# Altium integrated library TI Converter Analog to Digital.IntLib: 146 symbols (part 3 of 4)
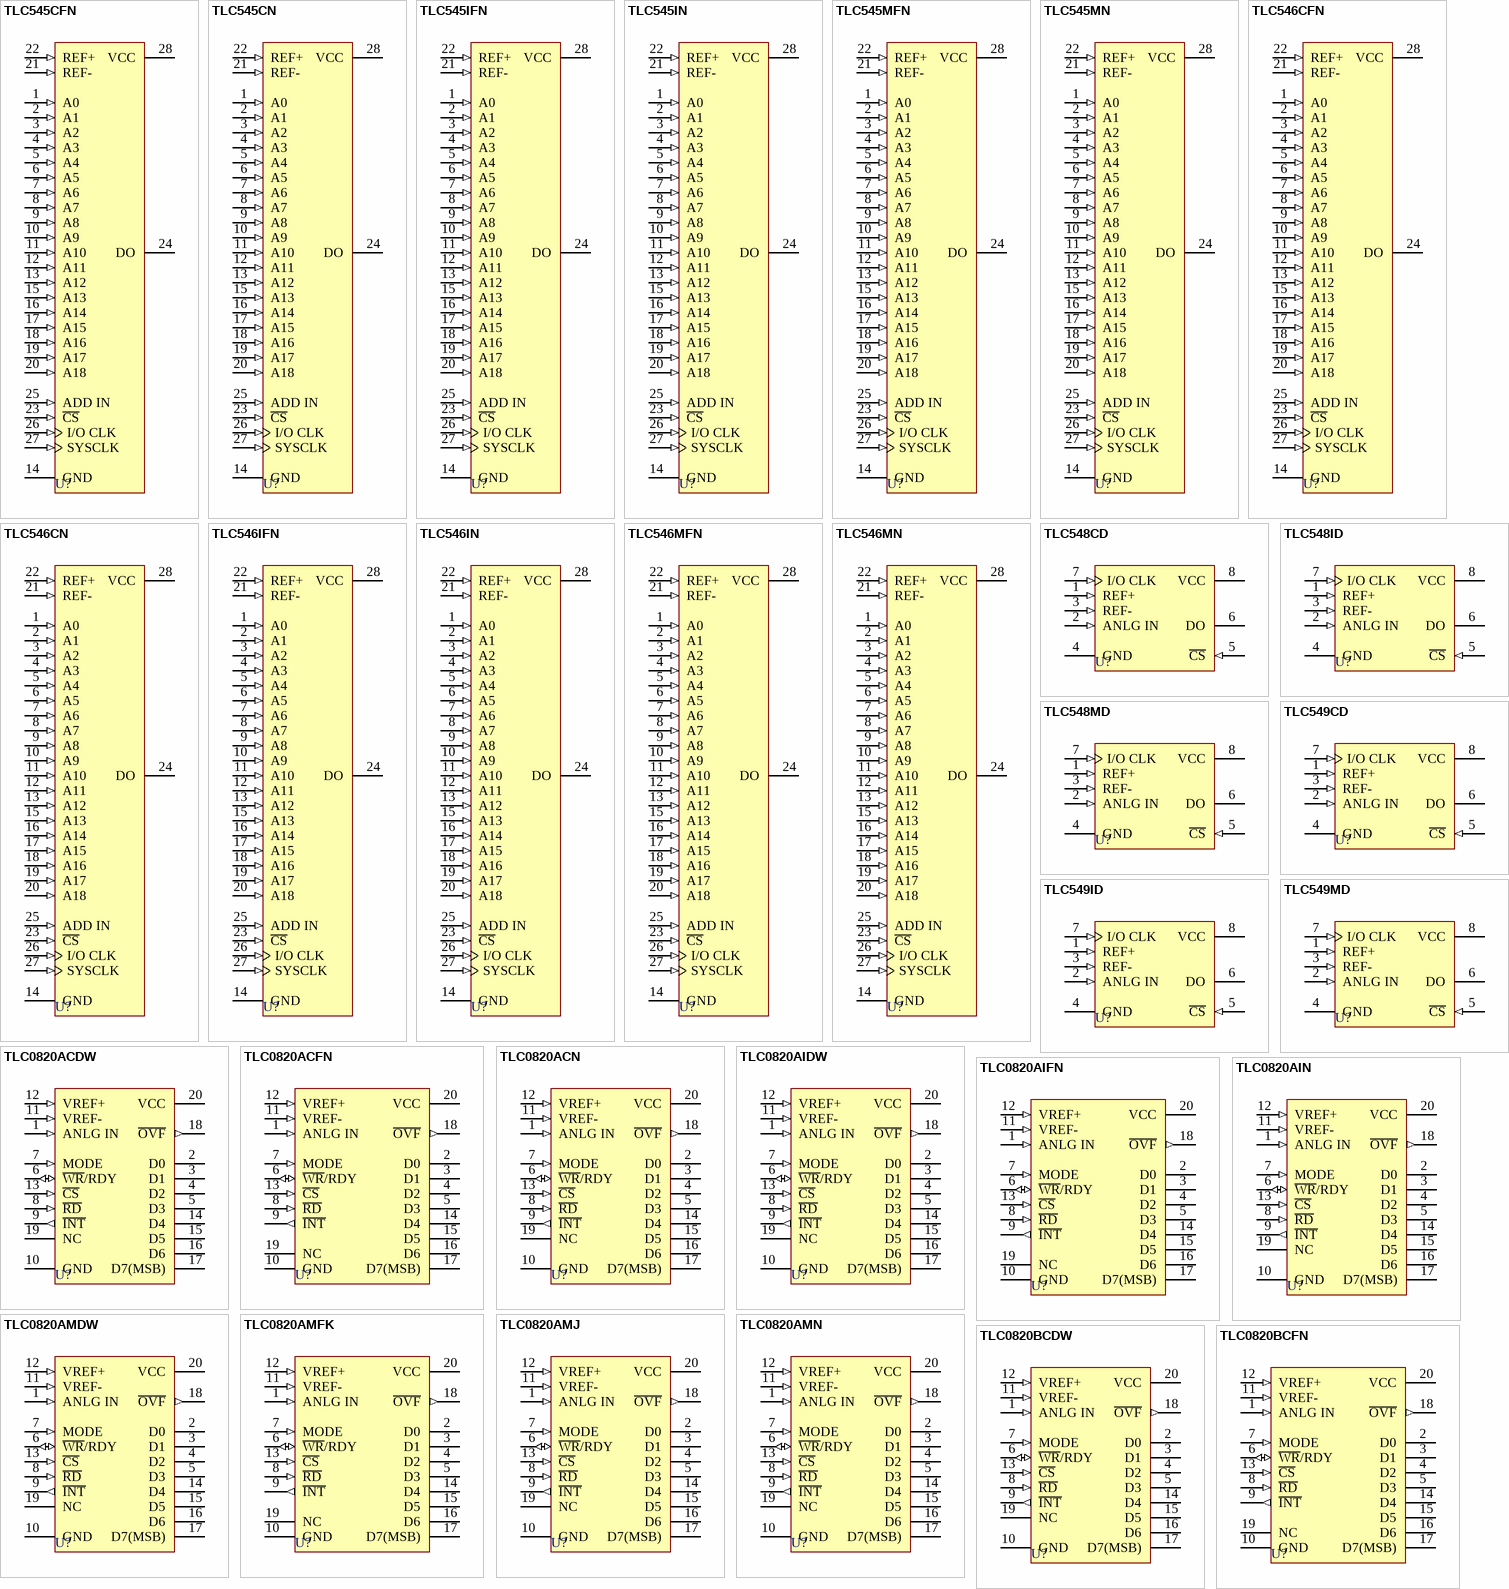
[diagram p7: symbols TLC545CFN to TLC0820BCFN]

## TLC548MD
designator U?
LinCMOS 8-Bit Analog-to-Digital Peripheral with Serial Control; Published: 15-Apr-2002; LatestRevisionDate: 13-Apr-2006; LatestRevisionNote: IPC-7351 Footprint Added.; DatasheetVersion: Oct-1988; PackageVersion: Jan-1998; PackageReference: D008; Publisher: Altium Limited; PackageDescription: 8-Pin Small Outline Integrated Circuit 1.27 mm Pitch; Code_IPC: SOIC127P600-8; ComponentLink1Description: Manufacturer Link; ComponentLink1URL: http://www.ti.com/
footprint D008_N (SOIC, 8-Leads, Body 4.9x3.9mm, Pitch 1.27mm, IPC Medium Density)
footprint D008_L (SOIC, 8-Leads, Body 4.9x3.9mm, Pitch 1.27mm, IPC High Density)
footprint D008_M (SOIC, 8-Leads, Body 4.9x3.9mm, Pitch 1.27mm, IPC Low Density)
3D model D008 (8-Pin Small Outline Integrated Circuit 1.27 mm Pitch)
pins: 1 REF+ (in), 2 ANLG IN (in), 3 REF- (in), 4 GND (power), 5 ~{CS} (in), 6 DO (hiz), 7 I/O CLK (in), 8 VCC (power)

## TLC549CD
designator U?
LinCMOS 8-Bit Analog-to-Digital Peripheral with Serial Control; Published: 15-Apr-2002; LatestRevisionDate: 13-Apr-2006; LatestRevisionNote: IPC-7351 Footprint Added.; DatasheetVersion: Oct-1988; PackageVersion: Jan-1998; PackageReference: D008; Publisher: Altium Limited; PackageDescription: 8-Pin Small Outline Integrated Circuit 1.27 mm Pitch; Code_IPC: SOIC127P600-8; ComponentLink1Description: Manufacturer Link; ComponentLink1URL: http://www.ti.com/; ComponentLink2Description: Datasheet; ComponentLink2URL: http://www-s.ti.com/sc/ds/tlc549.pdf
footprint D008_N (SOIC, 8-Leads, Body 4.9x3.9mm, Pitch 1.27mm, IPC Medium Density)
footprint D008_L (SOIC, 8-Leads, Body 4.9x3.9mm, Pitch 1.27mm, IPC High Density)
footprint D008_M (SOIC, 8-Leads, Body 4.9x3.9mm, Pitch 1.27mm, IPC Low Density)
3D model D008 (8-Pin Small Outline Integrated Circuit 1.27 mm Pitch)
pins: 1 REF+ (in), 2 ANLG IN (in), 3 REF- (in), 4 GND (power), 5 ~{CS} (in), 6 DO (hiz), 7 I/O CLK (in), 8 VCC (power)

## TLC549ID
designator U?
LinCMOS 8-Bit Analog-to-Digital Peripheral with Serial Control; Published: 15-Apr-2002; LatestRevisionDate: 13-Apr-2006; LatestRevisionNote: IPC-7351 Footprint Added.; DatasheetVersion: Oct-1988; PackageVersion: Jan-1998; PackageReference: D008; Publisher: Altium Limited; PackageDescription: 8-Pin Small Outline Integrated Circuit 1.27 mm Pitch; Code_IPC: SOIC127P600-8; ComponentLink1Description: Manufacturer Link; ComponentLink1URL: http://www.ti.com/; ComponentLink2Description: Datasheet; ComponentLink2URL: http://www-s.ti.com/sc/ds/tlc549.pdf
footprint D008_N (SOIC, 8-Leads, Body 4.9x3.9mm, Pitch 1.27mm, IPC Medium Density)
footprint D008_L (SOIC, 8-Leads, Body 4.9x3.9mm, Pitch 1.27mm, IPC High Density)
footprint D008_M (SOIC, 8-Leads, Body 4.9x3.9mm, Pitch 1.27mm, IPC Low Density)
3D model D008 (8-Pin Small Outline Integrated Circuit 1.27 mm Pitch)
pins: 1 REF+ (in), 2 ANLG IN (in), 3 REF- (in), 4 GND (power), 5 ~{CS} (in), 6 DO (hiz), 7 I/O CLK (in), 8 VCC (power)

## TLC549MD
designator U?
LinCMOS 8-Bit Analog-to-Digital Peripheral with Serial Control; Published: 15-Apr-2002; LatestRevisionDate: 13-Apr-2006; LatestRevisionNote: IPC-7351 Footprint Added.; DatasheetVersion: Oct-1988; PackageVersion: Jan-1998; PackageReference: D008; Publisher: Altium Limited; PackageDescription: 8-Pin Small Outline Integrated Circuit 1.27 mm Pitch; Code_IPC: SOIC127P600-8; ComponentLink1Description: Manufacturer Link; ComponentLink1URL: http://www.ti.com/
footprint D008_N (SOIC, 8-Leads, Body 4.9x3.9mm, Pitch 1.27mm, IPC Medium Density)
footprint D008_L (SOIC, 8-Leads, Body 4.9x3.9mm, Pitch 1.27mm, IPC High Density)
footprint D008_M (SOIC, 8-Leads, Body 4.9x3.9mm, Pitch 1.27mm, IPC Low Density)
3D model D008 (8-Pin Small Outline Integrated Circuit 1.27 mm Pitch)
pins: 1 REF+ (in), 2 ANLG IN (in), 3 REF- (in), 4 GND (power), 5 ~{CS} (in), 6 DO (hiz), 7 I/O CLK (in), 8 VCC (power)

## TLC0820ACDW
designator U?
Advanced LinCMOS High-Speed 8-Bit Analog-to-Digital Converter using Modified FLASH Techniques; Published: 15-Apr-2002; LatestRevisionDate: 13-Apr-2006; LatestRevisionNote: IPC-7351 Footprint Added.; DatasheetVersion: Feb-1989; PackageVersion: Mar-2000; PackageReference: DW020; Publisher: Altium Limited; PackageDescription: 20-Pin Plastic Small Outline Integrated Circuit 1.27 mm Pitch; Code_JEDEC: MS-013; Code_IPC: SOIC127P1030-20; ComponentLink1Description: Manufacturer Link; ComponentLink1URL: http://www.ti.com/; ComponentLink2Description: Datasheet; ComponentLink2URL: http://www-s.ti.com/sc/ds/tlc0820a.pdf
footprint DW020_N (SOIC, 20-Leads, Body 12.8x7.5mm, Pitch 1.27mm, IPC Medium Density)
footprint DW020_L (SOIC, 20-Leads, Body 12.8x7.5mm, Pitch 1.27mm, IPC High Density)
footprint DW020_M (SOIC, 20-Leads, Body 12.8x7.5mm, Pitch 1.27mm, IPC Low Density)
3D model DW020 (20-Pin Plastic Small Outline Integrated Circuit 1.27 mm Pitch)
pins: 1 ANLG IN (in), 2 D0 (hiz), 3 D1 (hiz), 4 D2 (hiz), 5 D3 (hiz), 6 ~{WR}/RDY (io), 7 MODE (in), 8 ~{RD} (in), 9 ~{INT} (out), 10 GND (power), 11 VREF- (in), 12 VREF+ (in), 13 ~{CS} (in), 14 D4 (hiz), 15 D5 (hiz), 16 D6 (hiz), 17 D7(MSB) (hiz), 18 ~{OVF} (out), 19 NC, 20 VCC (power)

## TLC0820ACFN
designator U?
Advanced LinCMOS High-Speed 8-Bit Analog-to-Digital Converter using Modified FLASH Techniques; Published: 15-Apr-2002; LatestRevisionDate: 13-Apr-2006; LatestRevisionNote: IPC-7351 Footprint Added.; DatasheetVersion: Feb-1989; PackageVersion: Oct-1994; PackageReference: FN020; Publisher: Altium Limited; PackageDescription: 20-Pin Leaded Chip Carrier 1.27 mm Pitch; Code_IPC: PLCC-20; ComponentLink1Description: Manufacturer Link; ComponentLink1URL: http://www.ti.com/; ComponentLink2Description: Datasheet; ComponentLink2URL: http://www-s.ti.com/sc/ds/tlc0820a.pdf
footprint FN020_N (Leaded Chip Carrier, 20-Leads, Body 9x9mm, Pitch 1.27mm, IPC Medium Density)
footprint FN020_L (Leaded Chip Carrier, 20-Leads, Body 9x9mm, Pitch 1.27mm, IPC High Density)
footprint FN020_M (Leaded Chip Carrier, 20-Leads, Body 9x9mm, Pitch 1.27mm, IPC Low Density)
3D model TLC0820-FN020 (20-Pin Leaded Chip Carrier 1.27 mm Pitch)
pins: 1 ANLG IN (in), 2 D0 (hiz), 3 D1 (hiz), 4 D2 (hiz), 5 D3 (hiz), 6 ~{WR}/RDY (io), 7 MODE (in), 8 ~{RD} (in), 9 ~{INT} (out), 10 GND (power), 11 VREF- (in), 12 VREF+ (in), 13 ~{CS} (in), 14 D4 (hiz), 15 D5 (hiz), 16 D6 (hiz), 17 D7(MSB) (hiz), 18 ~{OVF} (out), 19 NC, 20 VCC (power)

## TLC0820ACN
designator U?
Advanced LinCMOS High-Speed 8-Bit Analog-to-Digital Converter using Modified FLASH Techniques; Published: 15-Apr-2002; LatestRevisionDate: 08-Jul-2005; LatestRevisionNote: Stylized 3D Model Added.; DatasheetVersion: Feb-1989; PackageVersion: Oct-1995; PackageReference: N020; Publisher: Altium Limited; PackageDescription: DIP; 20 Leads; Row Spacing 7.62 mm; Pitch 2.54 mm; ComponentLink1Description: Manufacturer Link; ComponentLink1URL: http://www.ti.com/; ComponentLink2Description: Datasheet; ComponentLink2URL: http://www-s.ti.com/sc/ds/tlc0820a.pdf
footprint N020 (DIP; 20 Leads; Row Spacing 7.62 mm; Pitch 2.54 mm)
3D model N020 (DIP; 20 Leads; Row Spacing 7.62 mm; Pitch 2.54 mm)
pins: 1 ANLG IN (in), 2 D0 (hiz), 3 D1 (hiz), 4 D2 (hiz), 5 D3 (hiz), 6 ~{WR}/RDY (io), 7 MODE (in), 8 ~{RD} (in), 9 ~{INT} (out), 10 GND (power), 11 VREF- (in), 12 VREF+ (in), 13 ~{CS} (in), 14 D4 (hiz), 15 D5 (hiz), 16 D6 (hiz), 17 D7(MSB) (hiz), 18 ~{OVF} (out), 19 NC, 20 VCC (power)

## TLC0820AIDW
designator U?
Advanced LinCMOS High-Speed 8-Bit Analog-to-Digital Converter using Modified FLASH Techniques; Published: 15-Apr-2002; LatestRevisionDate: 13-Apr-2006; LatestRevisionNote: IPC-7351 Footprint Added.; DatasheetVersion: Feb-1989; PackageVersion: Mar-2000; PackageReference: DW020; Publisher: Altium Limited; PackageDescription: 20-Pin Plastic Small Outline Integrated Circuit 1.27 mm Pitch; Code_JEDEC: MS-013; Code_IPC: SOIC127P1030-20; ComponentLink1Description: Manufacturer Link; ComponentLink1URL: http://www.ti.com/; ComponentLink2Description: Datasheet; ComponentLink2URL: http://www-s.ti.com/sc/ds/tlc0820a.pdf
footprint DW020_N (SOIC, 20-Leads, Body 12.8x7.5mm, Pitch 1.27mm, IPC Medium Density)
footprint DW020_L (SOIC, 20-Leads, Body 12.8x7.5mm, Pitch 1.27mm, IPC High Density)
footprint DW020_M (SOIC, 20-Leads, Body 12.8x7.5mm, Pitch 1.27mm, IPC Low Density)
3D model DW020 (20-Pin Plastic Small Outline Integrated Circuit 1.27 mm Pitch)
pins: 1 ANLG IN (in), 2 D0 (hiz), 3 D1 (hiz), 4 D2 (hiz), 5 D3 (hiz), 6 ~{WR}/RDY (io), 7 MODE (in), 8 ~{RD} (in), 9 ~{INT} (out), 10 GND (power), 11 VREF- (in), 12 VREF+ (in), 13 ~{CS} (in), 14 D4 (hiz), 15 D5 (hiz), 16 D6 (hiz), 17 D7(MSB) (hiz), 18 ~{OVF} (out), 19 NC, 20 VCC (power)

## TLC0820AIFN
designator U?
Advanced LinCMOS High-Speed 8-Bit Analog-to-Digital Converter using Modified FLASH Techniques; Published: 15-Apr-2002; LatestRevisionDate: 13-Apr-2006; LatestRevisionNote: IPC-7351 Footprint Added.; DatasheetVersion: Feb-1989; PackageVersion: Oct-1994; PackageReference: FN020; Publisher: Altium Limited; PackageDescription: 20-Pin Leaded Chip Carrier 1.27 mm Pitch; Code_IPC: PLCC-20; ComponentLink1Description: Manufacturer Link; ComponentLink1URL: http://www.ti.com/; ComponentLink2Description: Datasheet; ComponentLink2URL: http://www-s.ti.com/sc/ds/tlc0820a.pdf
footprint FN020_N (Leaded Chip Carrier, 20-Leads, Body 9x9mm, Pitch 1.27mm, IPC Medium Density)
footprint FN020_L (Leaded Chip Carrier, 20-Leads, Body 9x9mm, Pitch 1.27mm, IPC High Density)
footprint FN020_M (Leaded Chip Carrier, 20-Leads, Body 9x9mm, Pitch 1.27mm, IPC Low Density)
3D model TLC0820-FN020 (20-Pin Leaded Chip Carrier 1.27 mm Pitch)
pins: 1 ANLG IN (in), 2 D0 (hiz), 3 D1 (hiz), 4 D2 (hiz), 5 D3 (hiz), 6 ~{WR}/RDY (io), 7 MODE (in), 8 ~{RD} (in), 9 ~{INT} (out), 10 GND (power), 11 VREF- (in), 12 VREF+ (in), 13 ~{CS} (in), 14 D4 (hiz), 15 D5 (hiz), 16 D6 (hiz), 17 D7(MSB) (hiz), 18 ~{OVF} (out), 19 NC, 20 VCC (power)

## TLC0820AIN
designator U?
Advanced LinCMOS High-Speed 8-Bit Analog-to-Digital Converter using Modified FLASH Techniques; Published: 15-Apr-2002; LatestRevisionDate: 08-Jul-2005; LatestRevisionNote: Stylized 3D Model Added.; DatasheetVersion: Feb-1989; PackageVersion: Oct-1995; PackageReference: N020; Publisher: Altium Limited; PackageDescription: DIP; 20 Leads; Row Spacing 7.62 mm; Pitch 2.54 mm; ComponentLink1Description: Manufacturer Link; ComponentLink1URL: http://www.ti.com/; ComponentLink2Description: Datasheet; ComponentLink2URL: http://www-s.ti.com/sc/ds/tlc0820a.pdf
footprint N020 (DIP; 20 Leads; Row Spacing 7.62 mm; Pitch 2.54 mm)
3D model N020 (DIP; 20 Leads; Row Spacing 7.62 mm; Pitch 2.54 mm)
pins: 1 ANLG IN (in), 2 D0 (hiz), 3 D1 (hiz), 4 D2 (hiz), 5 D3 (hiz), 6 ~{WR}/RDY (io), 7 MODE (in), 8 ~{RD} (in), 9 ~{INT} (out), 10 GND (power), 11 VREF- (in), 12 VREF+ (in), 13 ~{CS} (in), 14 D4 (hiz), 15 D5 (hiz), 16 D6 (hiz), 17 D7(MSB) (hiz), 18 ~{OVF} (out), 19 NC, 20 VCC (power)

## TLC0820AMDW
designator U?
Advanced LinCMOS High-Speed 8-Bit Analog-to-Digital Converter using Modified FLASH Techniques; Published: 15-Apr-2002; LatestRevisionDate: 13-Apr-2006; LatestRevisionNote: IPC-7351 Footprint Added.; DatasheetVersion: Feb-1989; PackageVersion: Mar-2000; PackageReference: DW020; Publisher: Altium Limited; PackageDescription: 20-Pin Plastic Small Outline Integrated Circuit 1.27 mm Pitch; Code_JEDEC: MS-013; Code_IPC: SOIC127P1030-20; ComponentLink1Description: Manufacturer Link; ComponentLink1URL: http://www.ti.com/
footprint DW020_N (SOIC, 20-Leads, Body 12.8x7.5mm, Pitch 1.27mm, IPC Medium Density)
footprint DW020_L (SOIC, 20-Leads, Body 12.8x7.5mm, Pitch 1.27mm, IPC High Density)
footprint DW020_M (SOIC, 20-Leads, Body 12.8x7.5mm, Pitch 1.27mm, IPC Low Density)
3D model DW020 (20-Pin Plastic Small Outline Integrated Circuit 1.27 mm Pitch)
pins: 1 ANLG IN (in), 2 D0 (hiz), 3 D1 (hiz), 4 D2 (hiz), 5 D3 (hiz), 6 ~{WR}/RDY (io), 7 MODE (in), 8 ~{RD} (in), 9 ~{INT} (out), 10 GND (power), 11 VREF- (in), 12 VREF+ (in), 13 ~{CS} (in), 14 D4 (hiz), 15 D5 (hiz), 16 D6 (hiz), 17 D7(MSB) (hiz), 18 ~{OVF} (out), 19 NC, 20 VCC (power)

## TLC0820AMFK
designator U?
Advanced LinCMOS High-Speed 8-Bit Analog-to-Digital Converter using Modified FLASH Techniques; Published: 15-Apr-2002; DatasheetVersion: Feb-1989; PackageVersion: 1998; PackageReference: FK020; Publisher: Altium Limited; PackageDescription: Leadless Chip Carrier; 20 Terminals; Body 8.9 x 8.9 mm; ComponentLink1Description: Manufacturer Link; ComponentLink1URL: http://www.ti.com/
footprint FK020 (Leadless Chip Carrier; 20 Terminals; Body 8.9 x 8.9 mm)
pins: 1 ANLG IN (in), 2 D0 (hiz), 3 D1 (hiz), 4 D2 (hiz), 5 D3 (hiz), 6 ~{WR}/RDY (io), 7 MODE (in), 8 ~{RD} (in), 9 ~{INT} (out), 10 GND (power), 11 VREF- (in), 12 VREF+ (in), 13 ~{CS} (in), 14 D4 (hiz), 15 D5 (hiz), 16 D6 (hiz), 17 D7(MSB) (hiz), 18 ~{OVF} (out), 19 NC, 20 VCC (power)

## TLC0820AMJ
designator U?
Advanced LinCMOS High-Speed 8-Bit Analog-to-Digital Converter using Modified FLASH Techniques; Published: 15-Apr-2002; LatestRevisionDate: 08-Jul-2005; LatestRevisionNote: Stylized 3D Model Added.; DatasheetVersion: Feb-1989; PackageVersion: Jun-1999; PackageReference: J020; Publisher: Altium Limited; PackageDescription: DIP; 20 Leads; Row Spacing 7.62 mm; Pitch 2.54 mm; ComponentLink1Description: Manufacturer Link; ComponentLink1URL: http://www.ti.com/
footprint J020 (DIP; 20 Leads; Row Spacing 7.62 mm; Pitch 2.54 mm)
3D model N020 (DIP; 20 Leads; Row Spacing 7.62 mm; Pitch 2.54 mm)
pins: 1 ANLG IN (in), 2 D0 (hiz), 3 D1 (hiz), 4 D2 (hiz), 5 D3 (hiz), 6 ~{WR}/RDY (io), 7 MODE (in), 8 ~{RD} (in), 9 ~{INT} (out), 10 GND (power), 11 VREF- (in), 12 VREF+ (in), 13 ~{CS} (in), 14 D4 (hiz), 15 D5 (hiz), 16 D6 (hiz), 17 D7(MSB) (hiz), 18 ~{OVF} (out), 19 NC, 20 VCC (power)

## TLC0820AMN
designator U?
Advanced LinCMOS High-Speed 8-Bit Analog-to-Digital Converter using Modified FLASH Techniques; Published: 15-Apr-2002; LatestRevisionDate: 08-Jul-2005; LatestRevisionNote: Stylized 3D Model Added.; DatasheetVersion: Feb-1989; PackageVersion: Oct-1995; PackageReference: N020; Publisher: Altium Limited; PackageDescription: DIP; 20 Leads; Row Spacing 7.62 mm; Pitch 2.54 mm; ComponentLink1Description: Manufacturer Link; ComponentLink1URL: http://www.ti.com/
footprint N020 (DIP; 20 Leads; Row Spacing 7.62 mm; Pitch 2.54 mm)
3D model N020 (DIP; 20 Leads; Row Spacing 7.62 mm; Pitch 2.54 mm)
pins: 1 ANLG IN (in), 2 D0 (hiz), 3 D1 (hiz), 4 D2 (hiz), 5 D3 (hiz), 6 ~{WR}/RDY (io), 7 MODE (in), 8 ~{RD} (in), 9 ~{INT} (out), 10 GND (power), 11 VREF- (in), 12 VREF+ (in), 13 ~{CS} (in), 14 D4 (hiz), 15 D5 (hiz), 16 D6 (hiz), 17 D7(MSB) (hiz), 18 ~{OVF} (out), 19 NC, 20 VCC (power)

## TLC0820BCDW
designator U?
Advanced LinCMOS High-Speed 8-Bit Analog-to-Digital Converter using Modified FLASH Techniques; Published: 15-Apr-2002; LatestRevisionDate: 13-Apr-2006; LatestRevisionNote: IPC-7351 Footprint Added.; DatasheetVersion: Feb-1989; PackageVersion: Mar-2000; PackageReference: DW020; Publisher: Altium Limited; PackageDescription: 20-Pin Plastic Small Outline Integrated Circuit 1.27 mm Pitch; Code_JEDEC: MS-013; Code_IPC: SOIC127P1030-20; ComponentLink1Description: Manufacturer Link; ComponentLink1URL: http://www.ti.com/
footprint DW020_N (SOIC, 20-Leads, Body 12.8x7.5mm, Pitch 1.27mm, IPC Medium Density)
footprint DW020_L (SOIC, 20-Leads, Body 12.8x7.5mm, Pitch 1.27mm, IPC High Density)
footprint DW020_M (SOIC, 20-Leads, Body 12.8x7.5mm, Pitch 1.27mm, IPC Low Density)
3D model DW020 (20-Pin Plastic Small Outline Integrated Circuit 1.27 mm Pitch)
pins: 1 ANLG IN (in), 2 D0 (hiz), 3 D1 (hiz), 4 D2 (hiz), 5 D3 (hiz), 6 ~{WR}/RDY (io), 7 MODE (in), 8 ~{RD} (in), 9 ~{INT} (out), 10 GND (power), 11 VREF- (in), 12 VREF+ (in), 13 ~{CS} (in), 14 D4 (hiz), 15 D5 (hiz), 16 D6 (hiz), 17 D7(MSB) (hiz), 18 ~{OVF} (out), 19 NC, 20 VCC (power)

## TLC0820BCFN
designator U?
Advanced LinCMOS High-Speed 8-Bit Analog-to-Digital Converter using Modified FLASH Techniques; Published: 15-Apr-2002; LatestRevisionDate: 13-Apr-2006; LatestRevisionNote: IPC-7351 Footprint Added.; DatasheetVersion: Feb-1989; PackageVersion: Oct-1994; PackageReference: FN020; Publisher: Altium Limited; PackageDescription: 20-Pin Leaded Chip Carrier 1.27 mm Pitch; Code_IPC: PLCC-20; ComponentLink1Description: Manufacturer Link; ComponentLink1URL: http://www.ti.com/
footprint FN020_N (Leaded Chip Carrier, 20-Leads, Body 9x9mm, Pitch 1.27mm, IPC Medium Density)
footprint FN020_L (Leaded Chip Carrier, 20-Leads, Body 9x9mm, Pitch 1.27mm, IPC High Density)
footprint FN020_M (Leaded Chip Carrier, 20-Leads, Body 9x9mm, Pitch 1.27mm, IPC Low Density)
3D model TLC0820-FN020 (20-Pin Leaded Chip Carrier 1.27 mm Pitch)
pins: 1 ANLG IN (in), 2 D0 (hiz), 3 D1 (hiz), 4 D2 (hiz), 5 D3 (hiz), 6 ~{WR}/RDY (io), 7 MODE (in), 8 ~{RD} (in), 9 ~{INT} (out), 10 GND (power), 11 VREF- (in), 12 VREF+ (in), 13 ~{CS} (in), 14 D4 (hiz), 15 D5 (hiz), 16 D6 (hiz), 17 D7(MSB) (hiz), 18 ~{OVF} (out), 19 NC, 20 VCC (power)

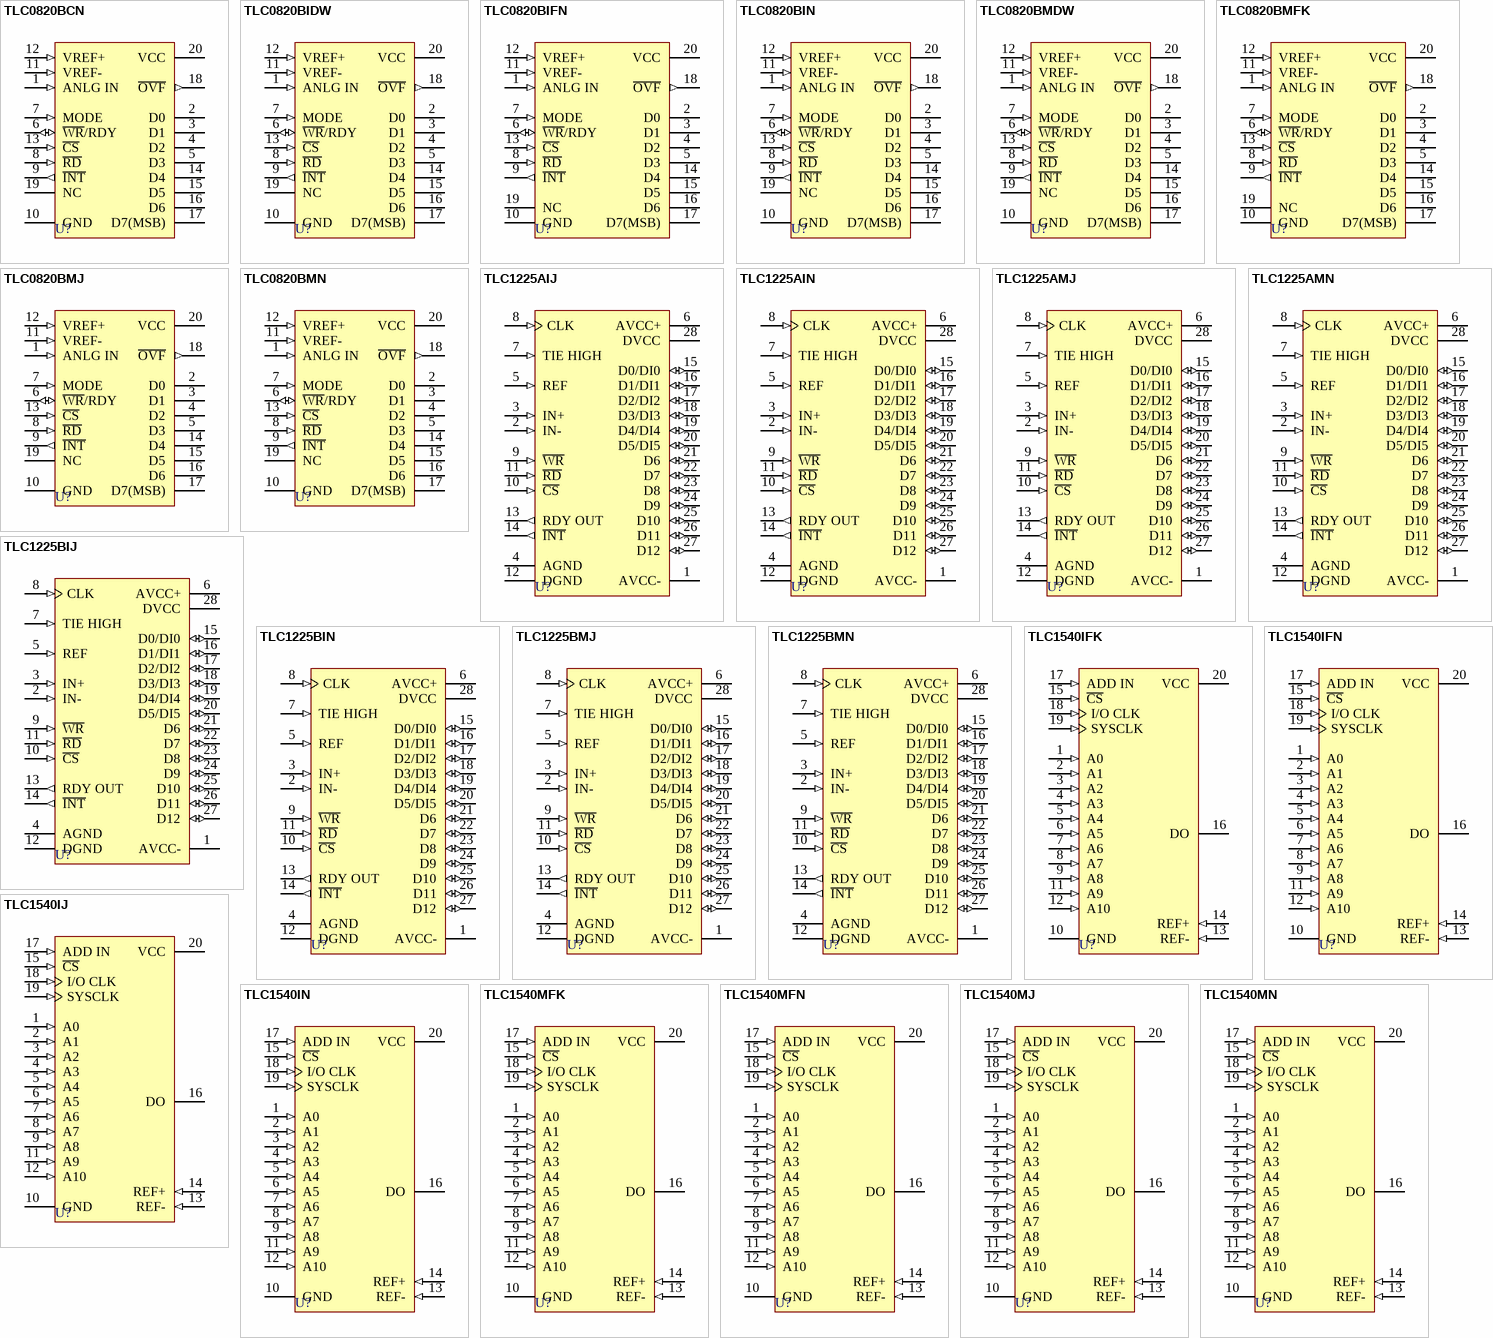
[diagram p4: symbols TLC0820BCN to TLC1540MN]

## TLC0820BCN
designator U?
Advanced LinCMOS High-Speed 8-Bit Analog-to-Digital Converter using Modified FLASH Techniques; Published: 15-Apr-2002; LatestRevisionDate: 08-Jul-2005; LatestRevisionNote: Stylized 3D Model Added.; DatasheetVersion: Feb-1989; PackageVersion: Oct-1995; PackageReference: N020; Publisher: Altium Limited; PackageDescription: DIP; 20 Leads; Row Spacing 7.62 mm; Pitch 2.54 mm; ComponentLink1Description: Manufacturer Link; ComponentLink1URL: http://www.ti.com/
footprint N020 (DIP; 20 Leads; Row Spacing 7.62 mm; Pitch 2.54 mm)
3D model N020 (DIP; 20 Leads; Row Spacing 7.62 mm; Pitch 2.54 mm)
pins: 1 ANLG IN (in), 2 D0 (hiz), 3 D1 (hiz), 4 D2 (hiz), 5 D3 (hiz), 6 ~{WR}/RDY (io), 7 MODE (in), 8 ~{RD} (in), 9 ~{INT} (out), 10 GND (power), 11 VREF- (in), 12 VREF+ (in), 13 ~{CS} (in), 14 D4 (hiz), 15 D5 (hiz), 16 D6 (hiz), 17 D7(MSB) (hiz), 18 ~{OVF} (out), 19 NC, 20 VCC (power)

## TLC0820BIDW
designator U?
Advanced LinCMOS High-Speed 8-Bit Analog-to-Digital Converter using Modified FLASH Techniques; Published: 15-Apr-2002; LatestRevisionDate: 13-Apr-2006; LatestRevisionNote: IPC-7351 Footprint Added.; DatasheetVersion: Feb-1989; PackageVersion: Mar-2000; PackageReference: DW020; Publisher: Altium Limited; PackageDescription: 20-Pin Plastic Small Outline Integrated Circuit 1.27 mm Pitch; Code_JEDEC: MS-013; Code_IPC: SOIC127P1030-20; ComponentLink1Description: Manufacturer Link; ComponentLink1URL: http://www.ti.com/
footprint DW020_N (SOIC, 20-Leads, Body 12.8x7.5mm, Pitch 1.27mm, IPC Medium Density)
footprint DW020_L (SOIC, 20-Leads, Body 12.8x7.5mm, Pitch 1.27mm, IPC High Density)
footprint DW020_M (SOIC, 20-Leads, Body 12.8x7.5mm, Pitch 1.27mm, IPC Low Density)
3D model DW020 (20-Pin Plastic Small Outline Integrated Circuit 1.27 mm Pitch)
pins: 1 ANLG IN (in), 2 D0 (hiz), 3 D1 (hiz), 4 D2 (hiz), 5 D3 (hiz), 6 ~{WR}/RDY (io), 7 MODE (in), 8 ~{RD} (in), 9 ~{INT} (out), 10 GND (power), 11 VREF- (in), 12 VREF+ (in), 13 ~{CS} (in), 14 D4 (hiz), 15 D5 (hiz), 16 D6 (hiz), 17 D7(MSB) (hiz), 18 ~{OVF} (out), 19 NC, 20 VCC (power)

## TLC0820BIFN
designator U?
Advanced LinCMOS High-Speed 8-Bit Analog-to-Digital Converter using Modified FLASH Techniques; Published: 15-Apr-2002; LatestRevisionDate: 13-Apr-2006; LatestRevisionNote: IPC-7351 Footprint Added.; DatasheetVersion: Feb-1989; PackageVersion: Oct-1994; PackageReference: FN020; Publisher: Altium Limited; PackageDescription: 20-Pin Leaded Chip Carrier 1.27 mm Pitch; Code_IPC: PLCC-20; ComponentLink1Description: Manufacturer Link; ComponentLink1URL: http://www.ti.com/
footprint FN020_N (Leaded Chip Carrier, 20-Leads, Body 9x9mm, Pitch 1.27mm, IPC Medium Density)
footprint FN020_L (Leaded Chip Carrier, 20-Leads, Body 9x9mm, Pitch 1.27mm, IPC High Density)
footprint FN020_M (Leaded Chip Carrier, 20-Leads, Body 9x9mm, Pitch 1.27mm, IPC Low Density)
3D model TLC0820-FN020 (20-Pin Leaded Chip Carrier 1.27 mm Pitch)
pins: 1 ANLG IN (in), 2 D0 (hiz), 3 D1 (hiz), 4 D2 (hiz), 5 D3 (hiz), 6 ~{WR}/RDY (io), 7 MODE (in), 8 ~{RD} (in), 9 ~{INT} (out), 10 GND (power), 11 VREF- (in), 12 VREF+ (in), 13 ~{CS} (in), 14 D4 (hiz), 15 D5 (hiz), 16 D6 (hiz), 17 D7(MSB) (hiz), 18 ~{OVF} (out), 19 NC, 20 VCC (power)

## TLC0820BIN
designator U?
Advanced LinCMOS High-Speed 8-Bit Analog-to-Digital Converter using Modified FLASH Techniques; Published: 15-Apr-2002; LatestRevisionDate: 08-Jul-2005; LatestRevisionNote: Stylized 3D Model Added.; DatasheetVersion: Feb-1989; PackageVersion: Oct-1995; PackageReference: N020; Publisher: Altium Limited; PackageDescription: DIP; 20 Leads; Row Spacing 7.62 mm; Pitch 2.54 mm; ComponentLink1Description: Manufacturer Link; ComponentLink1URL: http://www.ti.com/
footprint N020 (DIP; 20 Leads; Row Spacing 7.62 mm; Pitch 2.54 mm)
3D model N020 (DIP; 20 Leads; Row Spacing 7.62 mm; Pitch 2.54 mm)
pins: 1 ANLG IN (in), 2 D0 (hiz), 3 D1 (hiz), 4 D2 (hiz), 5 D3 (hiz), 6 ~{WR}/RDY (io), 7 MODE (in), 8 ~{RD} (in), 9 ~{INT} (out), 10 GND (power), 11 VREF- (in), 12 VREF+ (in), 13 ~{CS} (in), 14 D4 (hiz), 15 D5 (hiz), 16 D6 (hiz), 17 D7(MSB) (hiz), 18 ~{OVF} (out), 19 NC, 20 VCC (power)

## TLC0820BMDW
designator U?
Advanced LinCMOS High-Speed 8-Bit Analog-to-Digital Converter using Modified FLASH Techniques; Published: 15-Apr-2002; LatestRevisionDate: 13-Apr-2006; LatestRevisionNote: IPC-7351 Footprint Added.; DatasheetVersion: Feb-1989; PackageVersion: Mar-2000; PackageReference: DW020; Publisher: Altium Limited; PackageDescription: 20-Pin Plastic Small Outline Integrated Circuit 1.27 mm Pitch; Code_JEDEC: MS-013; Code_IPC: SOIC127P1030-20; ComponentLink1Description: Manufacturer Link; ComponentLink1URL: http://www.ti.com/
footprint DW020_N (SOIC, 20-Leads, Body 12.8x7.5mm, Pitch 1.27mm, IPC Medium Density)
footprint DW020_L (SOIC, 20-Leads, Body 12.8x7.5mm, Pitch 1.27mm, IPC High Density)
footprint DW020_M (SOIC, 20-Leads, Body 12.8x7.5mm, Pitch 1.27mm, IPC Low Density)
3D model DW020 (20-Pin Plastic Small Outline Integrated Circuit 1.27 mm Pitch)
pins: 1 ANLG IN (in), 2 D0 (hiz), 3 D1 (hiz), 4 D2 (hiz), 5 D3 (hiz), 6 ~{WR}/RDY (io), 7 MODE (in), 8 ~{RD} (in), 9 ~{INT} (out), 10 GND (power), 11 VREF- (in), 12 VREF+ (in), 13 ~{CS} (in), 14 D4 (hiz), 15 D5 (hiz), 16 D6 (hiz), 17 D7(MSB) (hiz), 18 ~{OVF} (out), 19 NC, 20 VCC (power)

## TLC0820BMFK
designator U?
Advanced LinCMOS High-Speed 8-Bit Analog-to-Digital Converter using Modified FLASH Techniques; Published: 15-Apr-2002; DatasheetVersion: Feb-1989; PackageVersion: 1998; PackageReference: FK020; Publisher: Altium Limited; PackageDescription: Leadless Chip Carrier; 20 Terminals; Body 8.9 x 8.9 mm; ComponentLink1Description: Manufacturer Link; ComponentLink1URL: http://www.ti.com/
footprint FK020 (Leadless Chip Carrier; 20 Terminals; Body 8.9 x 8.9 mm)
pins: 1 ANLG IN (in), 2 D0 (hiz), 3 D1 (hiz), 4 D2 (hiz), 5 D3 (hiz), 6 ~{WR}/RDY (io), 7 MODE (in), 8 ~{RD} (in), 9 ~{INT} (out), 10 GND (power), 11 VREF- (in), 12 VREF+ (in), 13 ~{CS} (in), 14 D4 (hiz), 15 D5 (hiz), 16 D6 (hiz), 17 D7(MSB) (hiz), 18 ~{OVF} (out), 19 NC, 20 VCC (power)

## TLC0820BMJ
designator U?
Advanced LinCMOS High-Speed 8-Bit Analog-to-Digital Converter using Modified FLASH Techniques; Published: 15-Apr-2002; LatestRevisionDate: 08-Jul-2005; LatestRevisionNote: Stylized 3D Model Added.; DatasheetVersion: Feb-1989; PackageVersion: Jun-1999; PackageReference: J020; Publisher: Altium Limited; PackageDescription: DIP; 20 Leads; Row Spacing 7.62 mm; Pitch 2.54 mm; ComponentLink1Description: Manufacturer Link; ComponentLink1URL: http://www.ti.com/
footprint J020 (DIP; 20 Leads; Row Spacing 7.62 mm; Pitch 2.54 mm)
3D model N020 (DIP; 20 Leads; Row Spacing 7.62 mm; Pitch 2.54 mm)
pins: 1 ANLG IN (in), 2 D0 (hiz), 3 D1 (hiz), 4 D2 (hiz), 5 D3 (hiz), 6 ~{WR}/RDY (io), 7 MODE (in), 8 ~{RD} (in), 9 ~{INT} (out), 10 GND (power), 11 VREF- (in), 12 VREF+ (in), 13 ~{CS} (in), 14 D4 (hiz), 15 D5 (hiz), 16 D6 (hiz), 17 D7(MSB) (hiz), 18 ~{OVF} (out), 19 NC, 20 VCC (power)

## TLC0820BMN
designator U?
Advanced LinCMOS High-Speed 8-Bit Analog-to-Digital Converter using Modified FLASH Techniques; Published: 15-Apr-2002; LatestRevisionDate: 08-Jul-2005; LatestRevisionNote: Stylized 3D Model Added.; DatasheetVersion: Feb-1989; PackageVersion: Oct-1995; PackageReference: N020; Publisher: Altium Limited; PackageDescription: DIP; 20 Leads; Row Spacing 7.62 mm; Pitch 2.54 mm; ComponentLink1Description: Manufacturer Link; ComponentLink1URL: http://www.ti.com/
footprint N020 (DIP; 20 Leads; Row Spacing 7.62 mm; Pitch 2.54 mm)
3D model N020 (DIP; 20 Leads; Row Spacing 7.62 mm; Pitch 2.54 mm)
pins: 1 ANLG IN (in), 2 D0 (hiz), 3 D1 (hiz), 4 D2 (hiz), 5 D3 (hiz), 6 ~{WR}/RDY (io), 7 MODE (in), 8 ~{RD} (in), 9 ~{INT} (out), 10 GND (power), 11 VREF- (in), 12 VREF+ (in), 13 ~{CS} (in), 14 D4 (hiz), 15 D5 (hiz), 16 D6 (hiz), 17 D7(MSB) (hiz), 18 ~{OVF} (out), 19 NC, 20 VCC (power)

## TLC1225AIJ
designator U?
Self-Calibrating 12-Bit-Plus-Sign Unipolar or Bipolar Analog-to-Digital Converter; ComponentAvailability: Obsolete; Published: 15-Apr-2002; LatestRevisionDate: 08-Jul-2005; LatestRevisionNote: Stylized 3D Model Added.; DatasheetVersion: Jan-1989; PackageVersion: Nov-1997; PackageReference: J028; Publisher: Altium Limited; PackageDescription: DIP; 28 Leads; Row Spacing 15.24 mm; Pitch 2.54 mm; ComponentLink1Description: Manufacturer Link; ComponentLink1URL: http://www.ti.com/
footprint J028 (DIP; 28 Leads; Row Spacing 15.24 mm; Pitch 2.54 mm)
3D model J028 (DIP; 28 Leads; Row Spacing 15.24 mm; Pitch 2.54 mm)
pins: 1 AVCC- (power), 2 IN- (in), 3 IN+ (in), 4 AGND (power), 5 REF (in), 6 AVCC+ (power), 7 TIE HIGH (in), 8 CLK (in), 9 ~{WR} (in), 10 ~{CS} (in), 11 ~{RD} (in), 12 DGND (power), 13 RDY OUT (out), 14 ~{INT} (out), 15 D0/DI0 (io), 16 D1/DI1 (io), 17 D2/DI2 (io), 18 D3/DI3 (io), 19 D4/DI4 (io), 20 D5/DI5 (io), 21 D6 (io), 22 D7 (io), 23 D8 (io), 24 D9 (io), 25 D10 (io), 26 D11 (io), 27 D12 (io), 28 DVCC (power)

## TLC1225AIN
designator U?
Self-Calibrating 12-Bit-Plus-Sign Unipolar or Bipolar Analog-to-Digital Converter; ComponentAvailability: Obsolete; Published: 15-Apr-2002; LatestRevisionDate: 08-Jul-2005; LatestRevisionNote: Stylized 3D Model Added.; DatasheetVersion: Jan-1989; PackageVersion: Oct-1994; PackageReference: N028; Publisher: Altium Limited; PackageDescription: DIP; 28 Leads; Row Spacing 15.24 mm; Pitch 2.54 mm; ComponentLink1Description: Manufacturer Link; ComponentLink1URL: http://www.ti.com/
footprint N028 (DIP; 28 Leads; Row Spacing 15.24 mm; Pitch 2.54 mm)
3D model N028 (DIP; 28 Leads; Row Spacing 15.24 mm; Pitch 2.54 mm)
pins: 1 AVCC- (power), 2 IN- (in), 3 IN+ (in), 4 AGND (power), 5 REF (in), 6 AVCC+ (power), 7 TIE HIGH (in), 8 CLK (in), 9 ~{WR} (in), 10 ~{CS} (in), 11 ~{RD} (in), 12 DGND (power), 13 RDY OUT (out), 14 ~{INT} (out), 15 D0/DI0 (io), 16 D1/DI1 (io), 17 D2/DI2 (io), 18 D3/DI3 (io), 19 D4/DI4 (io), 20 D5/DI5 (io), 21 D6 (io), 22 D7 (io), 23 D8 (io), 24 D9 (io), 25 D10 (io), 26 D11 (io), 27 D12 (io), 28 DVCC (power)

## TLC1225AMJ
designator U?
Self-Calibrating 12-Bit-Plus-Sign Unipolar or Bipolar Analog-to-Digital Converter; ComponentAvailability: Obsolete; Published: 15-Apr-2002; LatestRevisionDate: 08-Jul-2005; LatestRevisionNote: Stylized 3D Model Added.; DatasheetVersion: Jan-1989; PackageVersion: Nov-1997; PackageReference: J028; Publisher: Altium Limited; PackageDescription: DIP; 28 Leads; Row Spacing 15.24 mm; Pitch 2.54 mm; ComponentLink1Description: Manufacturer Link; ComponentLink1URL: http://www.ti.com/
footprint J028 (DIP; 28 Leads; Row Spacing 15.24 mm; Pitch 2.54 mm)
3D model J028 (DIP; 28 Leads; Row Spacing 15.24 mm; Pitch 2.54 mm)
pins: 1 AVCC- (power), 2 IN- (in), 3 IN+ (in), 4 AGND (power), 5 REF (in), 6 AVCC+ (power), 7 TIE HIGH (in), 8 CLK (in), 9 ~{WR} (in), 10 ~{CS} (in), 11 ~{RD} (in), 12 DGND (power), 13 RDY OUT (out), 14 ~{INT} (out), 15 D0/DI0 (io), 16 D1/DI1 (io), 17 D2/DI2 (io), 18 D3/DI3 (io), 19 D4/DI4 (io), 20 D5/DI5 (io), 21 D6 (io), 22 D7 (io), 23 D8 (io), 24 D9 (io), 25 D10 (io), 26 D11 (io), 27 D12 (io), 28 DVCC (power)

## TLC1225AMN
designator U?
Self-Calibrating 12-Bit-Plus-Sign Unipolar or Bipolar Analog-to-Digital Converter; ComponentAvailability: Obsolete; Published: 15-Apr-2002; LatestRevisionDate: 08-Jul-2005; LatestRevisionNote: Stylized 3D Model Added.; DatasheetVersion: Jan-1989; PackageVersion: Oct-1994; PackageReference: N028; Publisher: Altium Limited; PackageDescription: DIP; 28 Leads; Row Spacing 15.24 mm; Pitch 2.54 mm; ComponentLink1Description: Manufacturer Link; ComponentLink1URL: http://www.ti.com/
footprint N028 (DIP; 28 Leads; Row Spacing 15.24 mm; Pitch 2.54 mm)
3D model N028 (DIP; 28 Leads; Row Spacing 15.24 mm; Pitch 2.54 mm)
pins: 1 AVCC- (power), 2 IN- (in), 3 IN+ (in), 4 AGND (power), 5 REF (in), 6 AVCC+ (power), 7 TIE HIGH (in), 8 CLK (in), 9 ~{WR} (in), 10 ~{CS} (in), 11 ~{RD} (in), 12 DGND (power), 13 RDY OUT (out), 14 ~{INT} (out), 15 D0/DI0 (io), 16 D1/DI1 (io), 17 D2/DI2 (io), 18 D3/DI3 (io), 19 D4/DI4 (io), 20 D5/DI5 (io), 21 D6 (io), 22 D7 (io), 23 D8 (io), 24 D9 (io), 25 D10 (io), 26 D11 (io), 27 D12 (io), 28 DVCC (power)

## TLC1225BIJ
designator U?
Self-Calibrating 12-Bit-Plus-Sign Unipolar or Bipolar Analog-to-Digital Converter; ComponentAvailability: Obsolete; Published: 15-Apr-2002; LatestRevisionDate: 08-Jul-2005; LatestRevisionNote: Stylized 3D Model Added.; DatasheetVersion: Jan-1989; PackageVersion: Nov-1997; PackageReference: J028; Publisher: Altium Limited; PackageDescription: DIP; 28 Leads; Row Spacing 15.24 mm; Pitch 2.54 mm; ComponentLink1Description: Manufacturer Link; ComponentLink1URL: http://www.ti.com/
footprint J028 (DIP; 28 Leads; Row Spacing 15.24 mm; Pitch 2.54 mm)
3D model J028 (DIP; 28 Leads; Row Spacing 15.24 mm; Pitch 2.54 mm)
pins: 1 AVCC- (power), 2 IN- (in), 3 IN+ (in), 4 AGND (power), 5 REF (in), 6 AVCC+ (power), 7 TIE HIGH (in), 8 CLK (in), 9 ~{WR} (in), 10 ~{CS} (in), 11 ~{RD} (in), 12 DGND (power), 13 RDY OUT (out), 14 ~{INT} (out), 15 D0/DI0 (io), 16 D1/DI1 (io), 17 D2/DI2 (io), 18 D3/DI3 (io), 19 D4/DI4 (io), 20 D5/DI5 (io), 21 D6 (io), 22 D7 (io), 23 D8 (io), 24 D9 (io), 25 D10 (io), 26 D11 (io), 27 D12 (io), 28 DVCC (power)

## TLC1225BIN
designator U?
Self-Calibrating 12-Bit-Plus-Sign Unipolar or Bipolar Analog-to-Digital Converter; ComponentAvailability: Obsolete; Published: 15-Apr-2002; LatestRevisionDate: 08-Jul-2005; LatestRevisionNote: Stylized 3D Model Added.; DatasheetVersion: Jan-1989; PackageVersion: Oct-1994; PackageReference: N028; Publisher: Altium Limited; PackageDescription: DIP; 28 Leads; Row Spacing 15.24 mm; Pitch 2.54 mm; ComponentLink1Description: Manufacturer Link; ComponentLink1URL: http://www.ti.com/
footprint N028 (DIP; 28 Leads; Row Spacing 15.24 mm; Pitch 2.54 mm)
3D model N028 (DIP; 28 Leads; Row Spacing 15.24 mm; Pitch 2.54 mm)
pins: 1 AVCC- (power), 2 IN- (in), 3 IN+ (in), 4 AGND (power), 5 REF (in), 6 AVCC+ (power), 7 TIE HIGH (in), 8 CLK (in), 9 ~{WR} (in), 10 ~{CS} (in), 11 ~{RD} (in), 12 DGND (power), 13 RDY OUT (out), 14 ~{INT} (out), 15 D0/DI0 (io), 16 D1/DI1 (io), 17 D2/DI2 (io), 18 D3/DI3 (io), 19 D4/DI4 (io), 20 D5/DI5 (io), 21 D6 (io), 22 D7 (io), 23 D8 (io), 24 D9 (io), 25 D10 (io), 26 D11 (io), 27 D12 (io), 28 DVCC (power)

## TLC1225BMJ
designator U?
Self-Calibrating 12-Bit-Plus-Sign Unipolar or Bipolar Analog-to-Digital Converter; ComponentAvailability: Obsolete; Published: 15-Apr-2002; LatestRevisionDate: 08-Jul-2005; LatestRevisionNote: Stylized 3D Model Added.; DatasheetVersion: Jan-1989; PackageVersion: Nov-1997; PackageReference: J028; Publisher: Altium Limited; PackageDescription: DIP; 28 Leads; Row Spacing 15.24 mm; Pitch 2.54 mm; ComponentLink1Description: Manufacturer Link; ComponentLink1URL: http://www.ti.com/
footprint J028 (DIP; 28 Leads; Row Spacing 15.24 mm; Pitch 2.54 mm)
3D model J028 (DIP; 28 Leads; Row Spacing 15.24 mm; Pitch 2.54 mm)
pins: 1 AVCC- (power), 2 IN- (in), 3 IN+ (in), 4 AGND (power), 5 REF (in), 6 AVCC+ (power), 7 TIE HIGH (in), 8 CLK (in), 9 ~{WR} (in), 10 ~{CS} (in), 11 ~{RD} (in), 12 DGND (power), 13 RDY OUT (out), 14 ~{INT} (out), 15 D0/DI0 (io), 16 D1/DI1 (io), 17 D2/DI2 (io), 18 D3/DI3 (io), 19 D4/DI4 (io), 20 D5/DI5 (io), 21 D6 (io), 22 D7 (io), 23 D8 (io), 24 D9 (io), 25 D10 (io), 26 D11 (io), 27 D12 (io), 28 DVCC (power)

## TLC1225BMN
designator U?
Self-Calibrating 12-Bit-Plus-Sign Unipolar or Bipolar Analog-to-Digital Converter; ComponentAvailability: Obsolete; Published: 15-Apr-2002; LatestRevisionDate: 08-Jul-2005; LatestRevisionNote: Stylized 3D Model Added.; DatasheetVersion: Jan-1989; PackageVersion: Oct-1994; PackageReference: N028; Publisher: Altium Limited; PackageDescription: DIP; 28 Leads; Row Spacing 15.24 mm; Pitch 2.54 mm; ComponentLink1Description: Manufacturer Link; ComponentLink1URL: http://www.ti.com/
footprint N028 (DIP; 28 Leads; Row Spacing 15.24 mm; Pitch 2.54 mm)
3D model N028 (DIP; 28 Leads; Row Spacing 15.24 mm; Pitch 2.54 mm)
pins: 1 AVCC- (power), 2 IN- (in), 3 IN+ (in), 4 AGND (power), 5 REF (in), 6 AVCC+ (power), 7 TIE HIGH (in), 8 CLK (in), 9 ~{WR} (in), 10 ~{CS} (in), 11 ~{RD} (in), 12 DGND (power), 13 RDY OUT (out), 14 ~{INT} (out), 15 D0/DI0 (io), 16 D1/DI1 (io), 17 D2/DI2 (io), 18 D3/DI3 (io), 19 D4/DI4 (io), 20 D5/DI5 (io), 21 D6 (io), 22 D7 (io), 23 D8 (io), 24 D9 (io), 25 D10 (io), 26 D11 (io), 27 D12 (io), 28 DVCC (power)

## TLC1540IFK
designator U?
LinCMOS 10-Bit Analog-to-Digital Peripheral with Serial Control and 11 Inputs; Published: 15-Apr-2002; DatasheetVersion: Jan-1988; PackageVersion: 1998; PackageReference: FK020; Publisher: Altium Limited; PackageDescription: Leadless Chip Carrier; 20 Terminals; Body 8.9 x 8.9 mm; ComponentLink1Description: Manufacturer Link; ComponentLink1URL: http://www.ti.com/
footprint FK020 (Leadless Chip Carrier; 20 Terminals; Body 8.9 x 8.9 mm)
pins: 1 A0 (in), 2 A1 (in), 3 A2 (in), 4 A3 (in), 5 A4 (in), 6 A5 (in), 7 A6 (in), 8 A7 (in), 9 A8 (in), 10 GND (power), 11 A9 (in), 12 A10 (in), 13 REF- (in), 14 REF+ (in), 15 ~{CS} (in), 16 DO (hiz), 17 ADD IN (in), 18 I/O CLK (in), 19 SYSCLK (in), 20 VCC (power)

## TLC1540IFN
designator U?
LinCMOS 10-Bit Analog-to-Digital Peripheral with Serial Control and 11 Inputs; Published: 15-Apr-2002; LatestRevisionDate: 13-Apr-2006; LatestRevisionNote: IPC-7351 Footprint Added.; DatasheetVersion: Jan-1988; PackageVersion: Oct-1994; PackageReference: FN020; Publisher: Altium Limited; PackageDescription: 20-Pin Leaded Chip Carrier 1.27 mm Pitch; Code_IPC: PLCC-20; ComponentLink1Description: Manufacturer Link; ComponentLink1URL: http://www.ti.com/
footprint FN020_N (Leaded Chip Carrier, 20-Leads, Body 9x9mm, Pitch 1.27mm, IPC Medium Density)
footprint FN020_L (Leaded Chip Carrier, 20-Leads, Body 9x9mm, Pitch 1.27mm, IPC High Density)
footprint FN020_M (Leaded Chip Carrier, 20-Leads, Body 9x9mm, Pitch 1.27mm, IPC Low Density)
3D model TLC1540-FN020 (20-Pin Leaded Chip Carrier 1.27 mm Pitch)
pins: 1 A0 (in), 2 A1 (in), 3 A2 (in), 4 A3 (in), 5 A4 (in), 6 A5 (in), 7 A6 (in), 8 A7 (in), 9 A8 (in), 10 GND (power), 11 A9 (in), 12 A10 (in), 13 REF- (in), 14 REF+ (in), 15 ~{CS} (in), 16 DO (hiz), 17 ADD IN (in), 18 I/O CLK (in), 19 SYSCLK (in), 20 VCC (power)

## TLC1540IJ
designator U?
LinCMOS 10-Bit Analog-to-Digital Peripheral with Serial Control and 11 Inputs; Published: 15-Apr-2002; LatestRevisionDate: 08-Jul-2005; LatestRevisionNote: Stylized 3D Model Added.; DatasheetVersion: Jan-1988; PackageVersion: Jun-1999; PackageReference: J020; Publisher: Altium Limited; PackageDescription: DIP; 20 Leads; Row Spacing 7.62 mm; Pitch 2.54 mm; ComponentLink1Description: Manufacturer Link; ComponentLink1URL: http://www.ti.com/
footprint J020 (DIP; 20 Leads; Row Spacing 7.62 mm; Pitch 2.54 mm)
3D model N020 (DIP; 20 Leads; Row Spacing 7.62 mm; Pitch 2.54 mm)
pins: 1 A0 (in), 2 A1 (in), 3 A2 (in), 4 A3 (in), 5 A4 (in), 6 A5 (in), 7 A6 (in), 8 A7 (in), 9 A8 (in), 10 GND (power), 11 A9 (in), 12 A10 (in), 13 REF- (in), 14 REF+ (in), 15 ~{CS} (in), 16 DO (hiz), 17 ADD IN (in), 18 I/O CLK (in), 19 SYSCLK (in), 20 VCC (power)

## TLC1540IN
designator U?
LinCMOS 10-Bit Analog-to-Digital Peripheral with Serial Control and 11 Inputs; Published: 15-Apr-2002; LatestRevisionDate: 08-Jul-2005; LatestRevisionNote: Stylized 3D Model Added.; DatasheetVersion: Jan-1988; PackageVersion: Oct-1995; PackageReference: N020; Publisher: Altium Limited; PackageDescription: DIP; 20 Leads; Row Spacing 7.62 mm; Pitch 2.54 mm; ComponentLink1Description: Manufacturer Link; ComponentLink1URL: http://www.ti.com/
footprint N020 (DIP; 20 Leads; Row Spacing 7.62 mm; Pitch 2.54 mm)
3D model N020 (DIP; 20 Leads; Row Spacing 7.62 mm; Pitch 2.54 mm)
pins: 1 A0 (in), 2 A1 (in), 3 A2 (in), 4 A3 (in), 5 A4 (in), 6 A5 (in), 7 A6 (in), 8 A7 (in), 9 A8 (in), 10 GND (power), 11 A9 (in), 12 A10 (in), 13 REF- (in), 14 REF+ (in), 15 ~{CS} (in), 16 DO (hiz), 17 ADD IN (in), 18 I/O CLK (in), 19 SYSCLK (in), 20 VCC (power)

## TLC1540MFK
designator U?
LinCMOS 10-Bit Analog-to-Digital Peripheral with Serial Control and 11 Inputs; Published: 15-Apr-2002; DatasheetVersion: Jan-1988; PackageVersion: 1998; PackageReference: FK020; Publisher: Altium Limited; PackageDescription: Leadless Chip Carrier; 20 Terminals; Body 8.9 x 8.9 mm; ComponentLink1Description: Manufacturer Link; ComponentLink1URL: http://www.ti.com/
footprint FK020 (Leadless Chip Carrier; 20 Terminals; Body 8.9 x 8.9 mm)
pins: 1 A0 (in), 2 A1 (in), 3 A2 (in), 4 A3 (in), 5 A4 (in), 6 A5 (in), 7 A6 (in), 8 A7 (in), 9 A8 (in), 10 GND (power), 11 A9 (in), 12 A10 (in), 13 REF- (in), 14 REF+ (in), 15 ~{CS} (in), 16 DO (hiz), 17 ADD IN (in), 18 I/O CLK (in), 19 SYSCLK (in), 20 VCC (power)

## TLC1540MFN
designator U?
LinCMOS 10-Bit Analog-to-Digital Peripheral with Serial Control and 11 Inputs; Published: 15-Apr-2002; LatestRevisionDate: 13-Apr-2006; LatestRevisionNote: IPC-7351 Footprint Added.; DatasheetVersion: Jan-1988; PackageVersion: Oct-1994; PackageReference: FN020; Publisher: Altium Limited; PackageDescription: 20-Pin Leaded Chip Carrier 1.27 mm Pitch; Code_IPC: PLCC-20; ComponentLink1Description: Manufacturer Link; ComponentLink1URL: http://www.ti.com/
footprint FN020_N (Leaded Chip Carrier, 20-Leads, Body 9x9mm, Pitch 1.27mm, IPC Medium Density)
footprint FN020_L (Leaded Chip Carrier, 20-Leads, Body 9x9mm, Pitch 1.27mm, IPC High Density)
footprint FN020_M (Leaded Chip Carrier, 20-Leads, Body 9x9mm, Pitch 1.27mm, IPC Low Density)
3D model TLC1540-FN020 (20-Pin Leaded Chip Carrier 1.27 mm Pitch)
pins: 1 A0 (in), 2 A1 (in), 3 A2 (in), 4 A3 (in), 5 A4 (in), 6 A5 (in), 7 A6 (in), 8 A7 (in), 9 A8 (in), 10 GND (power), 11 A9 (in), 12 A10 (in), 13 REF- (in), 14 REF+ (in), 15 ~{CS} (in), 16 DO (hiz), 17 ADD IN (in), 18 I/O CLK (in), 19 SYSCLK (in), 20 VCC (power)

## TLC1540MJ
designator U?
LinCMOS 10-Bit Analog-to-Digital Peripheral with Serial Control and 11 Inputs; Published: 15-Apr-2002; LatestRevisionDate: 08-Jul-2005; LatestRevisionNote: Stylized 3D Model Added.; DatasheetVersion: Jan-1988; PackageVersion: Jun-1999; PackageReference: J020; Publisher: Altium Limited; PackageDescription: DIP; 20 Leads; Row Spacing 7.62 mm; Pitch 2.54 mm; ComponentLink1Description: Manufacturer Link; ComponentLink1URL: http://www.ti.com/
footprint J020 (DIP; 20 Leads; Row Spacing 7.62 mm; Pitch 2.54 mm)
3D model N020 (DIP; 20 Leads; Row Spacing 7.62 mm; Pitch 2.54 mm)
pins: 1 A0 (in), 2 A1 (in), 3 A2 (in), 4 A3 (in), 5 A4 (in), 6 A5 (in), 7 A6 (in), 8 A7 (in), 9 A8 (in), 10 GND (power), 11 A9 (in), 12 A10 (in), 13 REF- (in), 14 REF+ (in), 15 ~{CS} (in), 16 DO (hiz), 17 ADD IN (in), 18 I/O CLK (in), 19 SYSCLK (in), 20 VCC (power)

## TLC1540MN
designator U?
LinCMOS 10-Bit Analog-to-Digital Peripheral with Serial Control and 11 Inputs; Published: 15-Apr-2002; LatestRevisionDate: 08-Jul-2005; LatestRevisionNote: Stylized 3D Model Added.; DatasheetVersion: Jan-1988; PackageVersion: Oct-1995; PackageReference: N020; Publisher: Altium Limited; PackageDescription: DIP; 20 Leads; Row Spacing 7.62 mm; Pitch 2.54 mm; ComponentLink1Description: Manufacturer Link; ComponentLink1URL: http://www.ti.com/
footprint N020 (DIP; 20 Leads; Row Spacing 7.62 mm; Pitch 2.54 mm)
3D model N020 (DIP; 20 Leads; Row Spacing 7.62 mm; Pitch 2.54 mm)
pins: 1 A0 (in), 2 A1 (in), 3 A2 (in), 4 A3 (in), 5 A4 (in), 6 A5 (in), 7 A6 (in), 8 A7 (in), 9 A8 (in), 10 GND (power), 11 A9 (in), 12 A10 (in), 13 REF- (in), 14 REF+ (in), 15 ~{CS} (in), 16 DO (hiz), 17 ADD IN (in), 18 I/O CLK (in), 19 SYSCLK (in), 20 VCC (power)

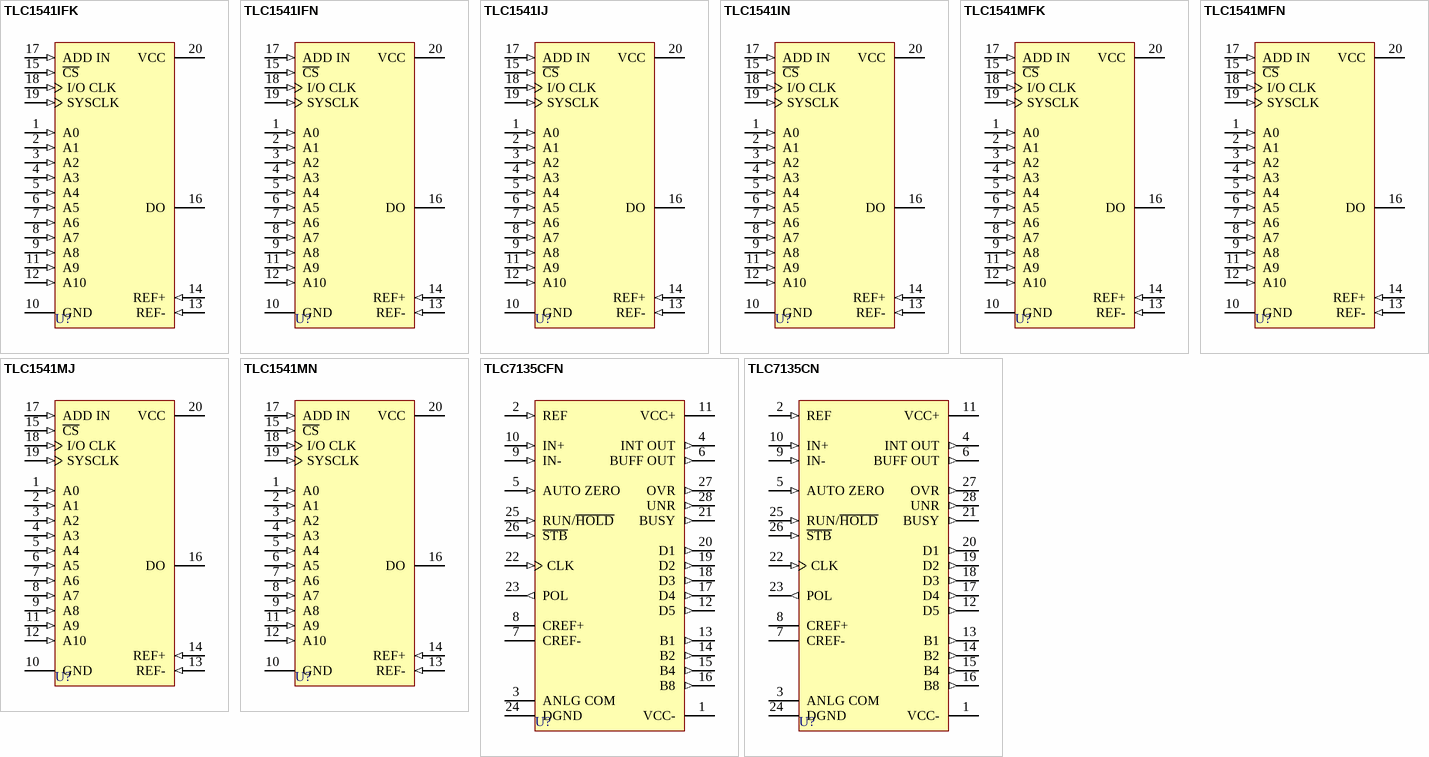
[diagram p5: symbols TLC1541IFK to TLC7135CN]

## TLC1541IFK
designator U?
LinCMOS 10-Bit Analog-to-Digital Peripheral with Serial Control and 11 Inputs; Published: 15-Apr-2002; DatasheetVersion: Jan-1988; PackageVersion: 1998; PackageReference: FK020; Publisher: Altium Limited; PackageDescription: Leadless Chip Carrier; 20 Terminals; Body 8.9 x 8.9 mm; ComponentLink1Description: Manufacturer Link; ComponentLink1URL: http://www.ti.com/
footprint FK020 (Leadless Chip Carrier; 20 Terminals; Body 8.9 x 8.9 mm)
pins: 1 A0 (in), 2 A1 (in), 3 A2 (in), 4 A3 (in), 5 A4 (in), 6 A5 (in), 7 A6 (in), 8 A7 (in), 9 A8 (in), 10 GND (power), 11 A9 (in), 12 A10 (in), 13 REF- (in), 14 REF+ (in), 15 ~{CS} (in), 16 DO (hiz), 17 ADD IN (in), 18 I/O CLK (in), 19 SYSCLK (in), 20 VCC (power)

## TLC1541IFN
designator U?
LinCMOS 10-Bit Analog-to-Digital Peripheral with Serial Control and 11 Inputs; Published: 15-Apr-2002; LatestRevisionDate: 13-Apr-2006; LatestRevisionNote: IPC-7351 Footprint Added.; DatasheetVersion: Jan-1988; PackageVersion: Oct-1994; PackageReference: FN020; Publisher: Altium Limited; PackageDescription: 20-Pin Leaded Chip Carrier 1.27 mm Pitch; Code_IPC: PLCC-20; ComponentLink1Description: Manufacturer Link; ComponentLink1URL: http://www.ti.com/; ComponentLink2Description: Datasheet; ComponentLink2URL: http://www-s.ti.com/sc/ds/tlc1541.pdf
footprint FN020_N (Leaded Chip Carrier, 20-Leads, Body 9x9mm, Pitch 1.27mm, IPC Medium Density)
footprint FN020_L (Leaded Chip Carrier, 20-Leads, Body 9x9mm, Pitch 1.27mm, IPC High Density)
footprint FN020_M (Leaded Chip Carrier, 20-Leads, Body 9x9mm, Pitch 1.27mm, IPC Low Density)
3D model TLC1541-FN020 (20-Pin Leaded Chip Carrier 1.27 mm Pitch)
pins: 1 A0 (in), 2 A1 (in), 3 A2 (in), 4 A3 (in), 5 A4 (in), 6 A5 (in), 7 A6 (in), 8 A7 (in), 9 A8 (in), 10 GND (power), 11 A9 (in), 12 A10 (in), 13 REF- (in), 14 REF+ (in), 15 ~{CS} (in), 16 DO (hiz), 17 ADD IN (in), 18 I/O CLK (in), 19 SYSCLK (in), 20 VCC (power)

## TLC1541IJ
designator U?
LinCMOS 10-Bit Analog-to-Digital Peripheral with Serial Control and 11 Inputs; Published: 15-Apr-2002; LatestRevisionDate: 08-Jul-2005; LatestRevisionNote: Stylized 3D Model Added.; DatasheetVersion: Jan-1988; PackageVersion: Jun-1999; PackageReference: J020; Publisher: Altium Limited; PackageDescription: DIP; 20 Leads; Row Spacing 7.62 mm; Pitch 2.54 mm; ComponentLink1Description: Manufacturer Link; ComponentLink1URL: http://www.ti.com/
footprint J020 (DIP; 20 Leads; Row Spacing 7.62 mm; Pitch 2.54 mm)
3D model N020 (DIP; 20 Leads; Row Spacing 7.62 mm; Pitch 2.54 mm)
pins: 1 A0 (in), 2 A1 (in), 3 A2 (in), 4 A3 (in), 5 A4 (in), 6 A5 (in), 7 A6 (in), 8 A7 (in), 9 A8 (in), 10 GND (power), 11 A9 (in), 12 A10 (in), 13 REF- (in), 14 REF+ (in), 15 ~{CS} (in), 16 DO (hiz), 17 ADD IN (in), 18 I/O CLK (in), 19 SYSCLK (in), 20 VCC (power)

## TLC1541IN
designator U?
LinCMOS 10-Bit Analog-to-Digital Peripheral with Serial Control and 11 Inputs; Published: 15-Apr-2002; LatestRevisionDate: 08-Jul-2005; LatestRevisionNote: Stylized 3D Model Added.; DatasheetVersion: Jan-1988; PackageVersion: Oct-1995; PackageReference: N020; Publisher: Altium Limited; PackageDescription: DIP; 20 Leads; Row Spacing 7.62 mm; Pitch 2.54 mm; ComponentLink1Description: Manufacturer Link; ComponentLink1URL: http://www.ti.com/; ComponentLink2Description: Datasheet; ComponentLink2URL: http://www-s.ti.com/sc/ds/tlc1541.pdf
footprint N020 (DIP; 20 Leads; Row Spacing 7.62 mm; Pitch 2.54 mm)
3D model N020 (DIP; 20 Leads; Row Spacing 7.62 mm; Pitch 2.54 mm)
pins: 1 A0 (in), 2 A1 (in), 3 A2 (in), 4 A3 (in), 5 A4 (in), 6 A5 (in), 7 A6 (in), 8 A7 (in), 9 A8 (in), 10 GND (power), 11 A9 (in), 12 A10 (in), 13 REF- (in), 14 REF+ (in), 15 ~{CS} (in), 16 DO (hiz), 17 ADD IN (in), 18 I/O CLK (in), 19 SYSCLK (in), 20 VCC (power)

## TLC1541MFK
designator U?
LinCMOS 10-Bit Analog-to-Digital Peripheral with Serial Control and 11 Inputs; Published: 15-Apr-2002; DatasheetVersion: Jan-1988; PackageVersion: 1998; PackageReference: FK020; Publisher: Altium Limited; PackageDescription: Leadless Chip Carrier; 20 Terminals; Body 8.9 x 8.9 mm; ComponentLink1Description: Manufacturer Link; ComponentLink1URL: http://www.ti.com/
footprint FK020 (Leadless Chip Carrier; 20 Terminals; Body 8.9 x 8.9 mm)
pins: 1 A0 (in), 2 A1 (in), 3 A2 (in), 4 A3 (in), 5 A4 (in), 6 A5 (in), 7 A6 (in), 8 A7 (in), 9 A8 (in), 10 GND (power), 11 A9 (in), 12 A10 (in), 13 REF- (in), 14 REF+ (in), 15 ~{CS} (in), 16 DO (hiz), 17 ADD IN (in), 18 I/O CLK (in), 19 SYSCLK (in), 20 VCC (power)

## TLC1541MFN
designator U?
LinCMOS 10-Bit Analog-to-Digital Peripheral with Serial Control and 11 Inputs; Published: 15-Apr-2002; LatestRevisionDate: 13-Apr-2006; LatestRevisionNote: IPC-7351 Footprint Added.; DatasheetVersion: Jan-1988; PackageVersion: Oct-1994; PackageReference: FN020; Publisher: Altium Limited; PackageDescription: 20-Pin Leaded Chip Carrier 1.27 mm Pitch; Code_IPC: PLCC-20; ComponentLink1Description: Manufacturer Link; ComponentLink1URL: http://www.ti.com/
footprint FN020_N (Leaded Chip Carrier, 20-Leads, Body 9x9mm, Pitch 1.27mm, IPC Medium Density)
footprint FN020_L (Leaded Chip Carrier, 20-Leads, Body 9x9mm, Pitch 1.27mm, IPC High Density)
footprint FN020_M (Leaded Chip Carrier, 20-Leads, Body 9x9mm, Pitch 1.27mm, IPC Low Density)
3D model TLC1541-FN020 (20-Pin Leaded Chip Carrier 1.27 mm Pitch)
pins: 1 A0 (in), 2 A1 (in), 3 A2 (in), 4 A3 (in), 5 A4 (in), 6 A5 (in), 7 A6 (in), 8 A7 (in), 9 A8 (in), 10 GND (power), 11 A9 (in), 12 A10 (in), 13 REF- (in), 14 REF+ (in), 15 ~{CS} (in), 16 DO (hiz), 17 ADD IN (in), 18 I/O CLK (in), 19 SYSCLK (in), 20 VCC (power)

## TLC1541MJ
designator U?
LinCMOS 10-Bit Analog-to-Digital Peripheral with Serial Control and 11 Inputs; Published: 15-Apr-2002; LatestRevisionDate: 08-Jul-2005; LatestRevisionNote: Stylized 3D Model Added.; DatasheetVersion: Jan-1988; PackageVersion: Jun-1999; PackageReference: J020; Publisher: Altium Limited; PackageDescription: DIP; 20 Leads; Row Spacing 7.62 mm; Pitch 2.54 mm; ComponentLink1Description: Manufacturer Link; ComponentLink1URL: http://www.ti.com/
footprint J020 (DIP; 20 Leads; Row Spacing 7.62 mm; Pitch 2.54 mm)
3D model N020 (DIP; 20 Leads; Row Spacing 7.62 mm; Pitch 2.54 mm)
pins: 1 A0 (in), 2 A1 (in), 3 A2 (in), 4 A3 (in), 5 A4 (in), 6 A5 (in), 7 A6 (in), 8 A7 (in), 9 A8 (in), 10 GND (power), 11 A9 (in), 12 A10 (in), 13 REF- (in), 14 REF+ (in), 15 ~{CS} (in), 16 DO (hiz), 17 ADD IN (in), 18 I/O CLK (in), 19 SYSCLK (in), 20 VCC (power)

## TLC1541MN
designator U?
LinCMOS 10-Bit Analog-to-Digital Peripheral with Serial Control and 11 Inputs; Published: 15-Apr-2002; LatestRevisionDate: 08-Jul-2005; LatestRevisionNote: Stylized 3D Model Added.; DatasheetVersion: Jan-1988; PackageVersion: Oct-1995; PackageReference: N020; Publisher: Altium Limited; PackageDescription: DIP; 20 Leads; Row Spacing 7.62 mm; Pitch 2.54 mm; ComponentLink1Description: Manufacturer Link; ComponentLink1URL: http://www.ti.com/
footprint N020 (DIP; 20 Leads; Row Spacing 7.62 mm; Pitch 2.54 mm)
3D model N020 (DIP; 20 Leads; Row Spacing 7.62 mm; Pitch 2.54 mm)
pins: 1 A0 (in), 2 A1 (in), 3 A2 (in), 4 A3 (in), 5 A4 (in), 6 A5 (in), 7 A6 (in), 8 A7 (in), 9 A8 (in), 10 GND (power), 11 A9 (in), 12 A10 (in), 13 REF- (in), 14 REF+ (in), 15 ~{CS} (in), 16 DO (hiz), 17 ADD IN (in), 18 I/O CLK (in), 19 SYSCLK (in), 20 VCC (power)

## TLC7135CFN
designator U?
Advanced LinCMOS 4 1/2-Digit Precision Analog-to-Digital Converter; Published: 15-Apr-2002; LatestRevisionDate: 13-Apr-2006; LatestRevisionNote: IPC-7351 Footprint Added.; DatasheetVersion: Mar-1988; PackageVersion: Oct-1994; PackageReference: FN028; Publisher: Altium Limited; PackageDescription: 28-Pin Leaded Chip Carrier 1.27 mm Pitch; Code_JEDEC: MS-018; Code_IPC: PLCC-28; ComponentLink1Description: Manufacturer Link; ComponentLink1URL: http://www.ti.com/; ComponentLink2Description: Datasheet; ComponentLink2URL: http://www-s.ti.com/sc/ds/icl7135.pdf
footprint FN028_N (Leaded Chip Carrier, 28-Leads, Body 11.5x11.5mm, Pitch 1.27mm, IPC Medium Density)
footprint FN028_L (Leaded Chip Carrier, 28-Leads, Body 11.5x11.5mm, Pitch 1.27mm, IPC High Density)
footprint FN028_M (Leaded Chip Carrier, 28-Leads, Body 11.5x11.5mm, Pitch 1.27mm, IPC Low Density)
3D model TLC7135-FN028 (28-Pin Leaded Chip Carrier 1.27 mm Pitch)
pins: 1 VCC- (power), 2 REF (in), 3 ANLG COM (power), 4 INT OUT (out), 5 AUTO ZERO (in), 6 BUFF OUT (out), 7 CREF-, 8 CREF+, 9 IN- (in), 10 IN+ (in), 11 VCC+ (power), 12 D5 (out), 13 B1 (out), 14 B2 (out), 15 B4 (out), 16 B8 (out), 17 D4 (out), 18 D3 (out), 19 D2 (out), 20 D1 (out), 21 BUSY (out), 22 CLK (in), 23 POL (out), 24 DGND (power), 25 RUN/~{HOLD} (in), 26 ~{STB} (in), 27 OVR (out), 28 UNR (out)